# Altium schematic symbol library ABS07AIG-32.768KHZ.Schlib: 1 symbol
Pins are listed as number, name and electrical type; pins without a type are passive.

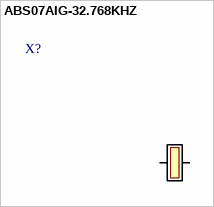
[diagram p0: symbol ABS07AIG-32.768KHZ]

## ABS07AIG-32.768KHZ
designator X?
AUTOMOTIVE & INDUSTRIAL GRADE 32.768kHZ SMD CRYSTAL
pins: 1, 2